# Altium footprint library LoraSMS.PcbLib: 27 footprints (part 1 of 2)
Each footprint in its own frame and in the unit in brackets; x right, y up, seen from the top. Pads: shape width x height; smd on the part's side, far side on the other; paste and mask are expansions set on the pad; w line width, h text height; cw(c..) or ccw(c..) is an arc to the next point about the centre after c.
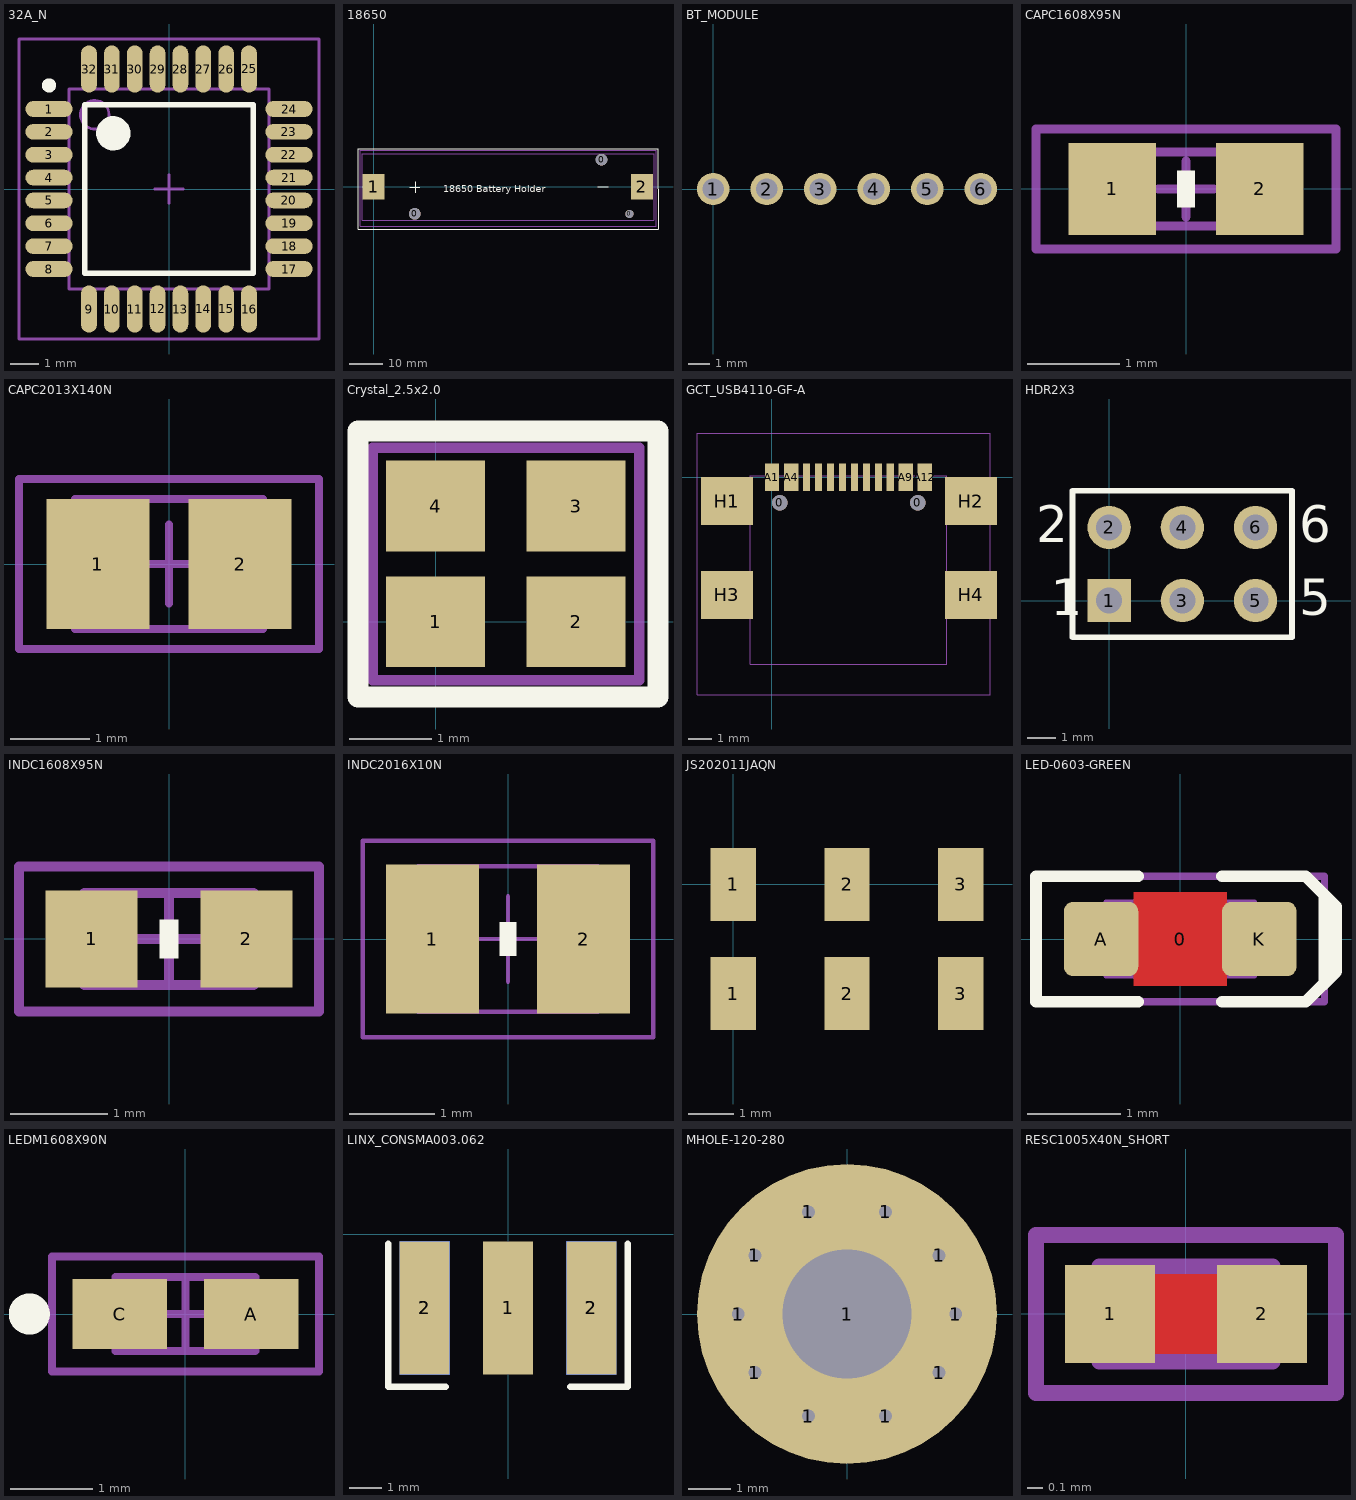
[diagram p0: the footprints below, top view; thin cyan lines are the x and y axes]

## 32A_N [mm] "Thin QFP, 32-Leads, Body 7x7mm, Pitch 0.8mm, IPC Medium Density"
height 1.2
pads (32):
  oval 1.65x0.55 smd: 1(-4.2,2.8) 2(-4.2,2) 3(-4.2,1.2) 4(-4.2,0.4) 5(-4.2,-0.4) 6(-4.2,-1.2) 7(-4.2,-2) 8(-4.2,-2.8) 17(4.2,-2.8) 18(4.2,-2) 19(4.2,-1.2) 20(4.2,-0.4) 21(4.2,0.4) 22(4.2,1.2) 23(4.2,2) 24(4.2,2.8)
  oval 0.55x1.65 smd: 9(-2.8,-4.2) 10(-2,-4.2) 11(-1.2,-4.2) 12(-0.4,-4.2) 13(0.4,-4.2) 14(1.2,-4.2) 15(2,-4.2) 16(2.8,-4.2) 25(2.8,4.2) 26(2,4.2) 27(1.2,4.2) 28(0.4,4.2) 29(-0.4,4.2) 30(-1.2,4.2) 31(-2,4.2) 32(-2.8,4.2)
Top Overlay:
  circle w0.6: c-1.95,1.95 r0.3
  circle w0.25: c-4.2,3.625 r0.125
  lines w0.2: -2.95,-2.95 2.95,-2.95 2.95,2.95 -2.95,2.95 -2.95,-2.95
Mechanical 13:
  circle w0.1: c-2.6,2.6 r0.5
  lines w0.1: -3.5,-3.5 3.5,-3.5 3.5,3.5 -3.5,3.5 -3.5,-3.5
Mechanical 15:
  lines w0.1: -0.5,0 0.5,0 ; 0,-0.5 0,0.5 ; -5.25,-5.25 5.25,-5.25 5.25,5.25 -5.25,5.25 -5.25,-5.25
3D body: height 1.2, standoff 0, extent -3.5,-3.5 3.5,3.5

## 18650 [mm] "HOLDER BATTERY 1CELL 18650 SMD"
height 14.86
pads (5):
  round 3.45 hole 3.45: 0(12.19,-8) 0(67.39,8)
  round 2.39 hole 2.39: 0(75.61,-8)
  rect 6.47x7.46 smd: 1(0,0) 2(79.34,0)
Top Overlay:
  lines w0.254: 10.77,-0.076 13.716,-0.076 ; 12.37,-1.803 12.37,1.549 ; 66.243,-0.051 69.342,-0.051 ; -4.597,-12.598 84.074,-12.598 84.074,11.303 -4.597,11.303 -4.597,-12.598
  text "18650 Battery Holder" at 20.65,-1.676 h2
Mechanical 5:
  text ".Designator" at 35.128,-0.051 h0.51
Mechanical 13:
  lines w0.1: -3.378,-9.881 82.804,-9.881 82.804,9.83 -3.378,9.83 -3.378,-9.881
Mechanical 15:
  lines w0.1: -3.886,-11.659 83.515,-11.659 83.515,10.815 -3.886,10.815 -3.886,-11.659
3D body "keystone-PN1042.STEP": height 14.86, standoff -3.43, extent -3.15,-10.211 82.855,10.439

## BT_MODULE [mil]
pads (6):
  round 60 hole 39.37: 1(0,0) 2(98.82,0) 3(197.64,0) 4(296.85,0) 5(395.67,0) 6(494.49,0)

## CAPC1608X95N [mm] "Chip Capacitor, Body 1.6x0.8mm, IPC Medium Density (0603)"
height 0.95
pads (2):
  rect 0.95x1 smd: 1(-0.8,0) 2(0.8,0)
Top Overlay:
  rectangle: -0.1,-0.2 0.1,0.2
Mechanical 5:
  text ".Designator" at 0,0 h0.64
Mechanical 13:
  lines w0.1: -0.8,-0.4 0.8,-0.4 0.8,0.4 -0.8,0.4 -0.8,-0.4
Mechanical 15:
  lines w0.1: -0.3,0 0.3,0 ; 0,-0.3 0,0.3 ; -1.625,-0.65 1.625,-0.65 1.625,0.65 -1.625,0.65 -1.625,-0.65
3D body: height 0.95, standoff 0, extent -0.799,-0.399 0.799,0.399

## CAPC2013X140N [mm] "Chip Capacitor, 2-Leads, Body 2.0x1.3mm, IPC Medium Density"
height 1.4
pads (2):
  rect 1.3x1.65 smd: 1(-0.9,0) 2(0.9,0)
Mechanical 5:
  text ".Designator" at 0,0 h0.64
Mechanical 13:
  lines w0.1: -1.19,-0.825 -1.19,0.825 1.19,0.825 1.19,-0.825 -1.19,-0.825
Mechanical 15:
  lines w0.1: -0.5,0 0.5,0 ; 0,-0.5 0,0.5 ; -1.9,-1.075 -1.9,1.075 1.9,1.075 1.9,-1.075 -1.9,-1.075
3D body: height 1.4, standoff 0, extent -1.189,-0.825 1.189,0.824

## Crystal_2.5x2.0 [mm]
height 5.54
pads (4):
  rect 1.2x1.1 smd: 1(0,0) 2(1.7,0) 3(1.7,1.4) 4(0,1.4)
Top Overlay:
  lines w0.254: -0.94,-0.914 -0.94,2.311 2.692,2.311 2.692,-0.914 -0.94,-0.914
Mechanical 13:
  lines w0.127: -0.762,-0.711 -0.762,2.108 2.464,2.108 2.464,-0.711 -0.762,-0.711
Mechanical 15:
  lines w0.127: -0.762,-0.711 2.464,-0.711 2.464,2.108 -0.762,2.108 -0.762,-0.711

## GCT_USB4110-GF-A [mm]
height 3.26
pads (18):
  round 0.65 hole 0.65 paste+0 mask+0: 0(0.33,-1.075) 0(6.11,-1.075)
  rect 0.6x1.15 smd mask+0: A1(0,0) A4(0.8,0) A9(5.602,0) A12(6.402,0)
  rect 0.3x1.15 smd mask+0: A5(1.952,0) A6(2.952,0) A7(3.452,0) A8(4.452,0) B5(4.952,0) B6(3.952,0) B7(2.452,0) B8(1.45,0)
  rect 2.18x2 smd mask+0.05: H1(-1.89,-1) H2(8.33,-1) H4(8.33,-4.93)
  rect 2.18x2 smd paste+0 mask+0.05: H3(-1.89,-4.93)
Mechanical 5:
  text ".Designator" at 0.8,-4.115 h0.64
Mechanical 13:
  lines w0.051: -0.914,-7.84 7.315,-7.84 7.315,0.06 -0.914,0.06 -0.914,-7.84
Mechanical 15:
  lines w0.051: -3.14,-9.11 -3.14,1.84 9.14,1.84 9.14,-9.11 -3.14,-9.11
3D body "USB4110-GF-A_revA.STEP": height 3.23, standoff -0.72, extent -2.438,-7.369 8.862,0.307
3D body: height 0.25, standoff 0, extent 0.968,-10.193 0.968,-10.193

## HDR2X3 [mm] "Connector; Header; 3x2 Position"
height 5.54
pads (6):
  rect 1.5x1.5 hole 0.9: 1(0,0)
  round 1.5 hole 0.9: 2(0,2.54) 3(2.54,0) 4(2.54,2.54) 5(5.08,0) 6(5.08,2.54)
Top Overlay:
  lines w0.2: 1.482,-1.27 6.35,-1.27 ; 6.35,-1.27 6.35,3.81 -1.27,3.81 -1.27,-1.27 6.35,-1.27
  text "6" at 6.604,2.032 h1.27
  text "5" at 6.604,-0.508 h1.27
  text "2" at -2.54,2.032 h1.27
  text "1" at -2.032,-0.508 h1.27

## INDC1608X95N [mm] "Chip Inductor, 2-Leads, Body 1.6x0.8mm, IPC Medium Density"
height 0.95
pads (2):
  rect 0.95x1 smd: 1(-0.8,0) 2(0.8,0)
Top Overlay:
  rectangle: -0.1,-0.2 0.1,0.2
Mechanical 5:
  text ".Designator" at 0,0 h0.64
Mechanical 13:
  lines w0.1: -0.875,-0.475 0.875,-0.475 0.875,0.475 -0.875,0.475 -0.875,-0.475
Mechanical 15:
  lines w0.1: -0.475,0 0.475,0 ; 0,-0.475 0,0.475 ; -1.55,-0.75 1.55,-0.75 1.55,0.75 -1.55,0.75 -1.55,-0.75
3D body: height 0.95, standoff 0, extent -0.875,-0.474 0.874,0.474

## INDC2016X10N [mm] "Chip Inductor, 2-Leads, Body 2.00x1.60mm, IPC Medium Density"
height 1
pads (2):
  rect 1.09x1.74 smd: 1(-0.885,0) 2(0.885,0)
Top Overlay:
  rectangle: -0.1,-0.2 0.1,0.2
Mechanical 5:
  text ".Designator" at -0.635,-0.254 h0.64
Mechanical 13:
  lines w0.051: -1.05,-0.85 -1.05,0.85 1.05,0.85 1.05,-0.85 -1.05,-0.85
Mechanical 15:
  lines w0.051: -0.5,0 0.5,0 ; 0,-0.5 0,0.5 ; -1.7,-1.15 -1.7,1.15 1.7,1.15 1.7,-1.15 -1.7,-1.15
3D body "INDC2016X10N.step": height 1, standoff 0, extent -1.05,-0.85 1.05,0.85

## JS202011JAQN [mm]
height 3.5
pads (6):
  rect 1x1.6 smd: 1(0,-2.4) 1(0,0) 2(2.5,-2.4) 2(2.5,0) 3(5,-2.4) 3(5,0)
3D body "JS202011JAQN.stp": height 3.62, standoff -0.68, extent -2.032,-4.959 6.968,0.591

## LED-0603-GREEN [mm]
height 0.8
pads (3):
  round 0.254 on Mech15: 0(0,0)
  rrect25% 0.8x0.8 smd: A(-0.85,0) K(0.85,0)
Top Layer:
  pour cut-out: -0.5,0.5 0.5,0.5 0.5,-0.5 -0.5,-0.5
Top Overlay:
  lines w0.127: -0.45,-0.675 -1.55,-0.675 -1.55,0.675 -0.45,0.675 ; 0.45,-0.675 1.35,-0.675 1.55,-0.475 1.55,0.475 1.35,0.675 0.45,0.675 ; 1.5,0.525 1.675,0.35 1.675,-0.35 1.525,-0.5
Mechanical 13:
  lines w0.05: -0.6,-0.4 -0.6,0.399 0.6,0.4 0.6,-0.4 -0.6,-0.399 ; -0.505,-0.398 -0.505,0.398 ; -0.5,-0.4 -0.8,-0.4 -0.8,0.4 -0.5,0.4 ; 0.5,-0.4 0.8,-0.4 0.8,0.4 0.5,0.4 ; 0.505,-0.398 0.505,0.398 ; -0.599,-0.398 0.599,-0.398 0.599,0.398 -0.599,0.398 -0.599,-0.398
Mechanical 15:
  lines w0.076: -1.55,-0.675 -1.55,0.675 1.55,0.675 1.55,-0.675 -1.55,-0.675
3D body "LED 0603 APT1608 GREEN.STEP": height 0.75, standoff 0, extent -0.8,-0.4 0.8,0.4

## LEDM1608X90N [mm] "Molded LED, 2-Leads, Body 1.6x0.8mm, IPC Medium Density"
height 0.9
pads (2):
  rect 1.15x0.85 smd: A(0.8,0) C(-0.8,0)
Top Overlay:
  circle w0.25: c-1.9,0 r0.125
Mechanical 5:
  text ".Designator" at 0,0 h0.64
Mechanical 13:
  rectangle: -0.853,-0.45 -0.4,0.45
  lines w0.1: -0.85,-0.45 -0.85,0.45 0.85,0.45 0.85,-0.45 -0.85,-0.45
Mechanical 15:
  lines w0.1: -0.45,0 0.45,0 ; 0,-0.45 0,0.45 ; -1.625,-0.7 -1.625,0.7 1.625,0.7 1.625,-0.7 -1.625,-0.7
3D body: height 0.9, standoff 0, extent -0.849,-0.449 0.849,0.449

## LINX_CONSMA003.062 [mm] "CONN, SMA JACK FEMALE, 50 OHM, EDGE MNT"
height 4.62
pads (5):
  rect 1.52x4.06 smd: 1(0,-2.25) 2(-2.54,-2.25) 2(2.54,-2.25)
  rect 1.52x4.06 smd far side: 2(-2.54,-2.25) 2(2.54,-2.25)
Top Overlay:
  lines w0.2: -3.65,-0.3 -3.65,-4.65 -1.9,-4.65 ; 1.9,-4.65 3.65,-4.65 3.65,-0.3
Mechanical 5:
  text ".Designator" at 0,0 h0.64
3D body "CONSMA003_062.STEP": height 4.62, standoff -3.3, extent -3.962,-3.9 3.962,7.644

## MHOLE-120-280 [mil]
height 218.11
pads (11):
  round 25 hole 12 paste-1968.5 mask+2: 1(-101.56,0) 1(-85.94,-54.69) 1(-85.94,54.69) 1(-35.94,-95.31) 1(-35.94,95.31) 1(35.94,-95.31) 1(35.94,95.31) 1(85.94,-54.69) 1(85.94,54.69) 1(101.56,0)
  round 280 hole 120 paste-1968.5 mask+2: 1(0,0)
Mechanical 13:
  circle w3.94: c0,0 r30

## RESC1005X40N_SHORT [mm] "Chip Resistor, Body 1.0x0.5mm, IPC Medium Density"
height 0.4
pads (2):
  rect 0.57x0.62 smd: 1(-0.48,0) 2(0.48,0)
Top Layer:
  rectangle: -0.254,-0.254 0.254,0.254
Mechanical 5:
  text ".Designator" at 0,0 h0.64
Mechanical 13:
  lines w0.1: -0.55,-0.3 0.55,-0.3 0.55,0.3 -0.55,0.3 -0.55,-0.3
Mechanical 15:
  lines w0.1: -0.3,0 0.3,0 ; 0,-0.3 0,0.3 ; -0.95,-0.5 0.95,-0.5 0.95,0.5 -0.95,0.5 -0.95,-0.5
3D body: height 0.4, standoff 0, extent -0.55,-0.299 0.549,0.299